# Altium footprint library PcbLib.PcbLib: 46 footprints (part 2 of 3)
Each footprint in its own frame and in the unit in brackets; x right, y up, seen from the top. Pads: shape width x height; smd on the part's side, far side on the other; paste and mask are expansions set on the pad; w line width, h text height; cw(c..) or ccw(c..) is an arc to the next point about the centre after c.
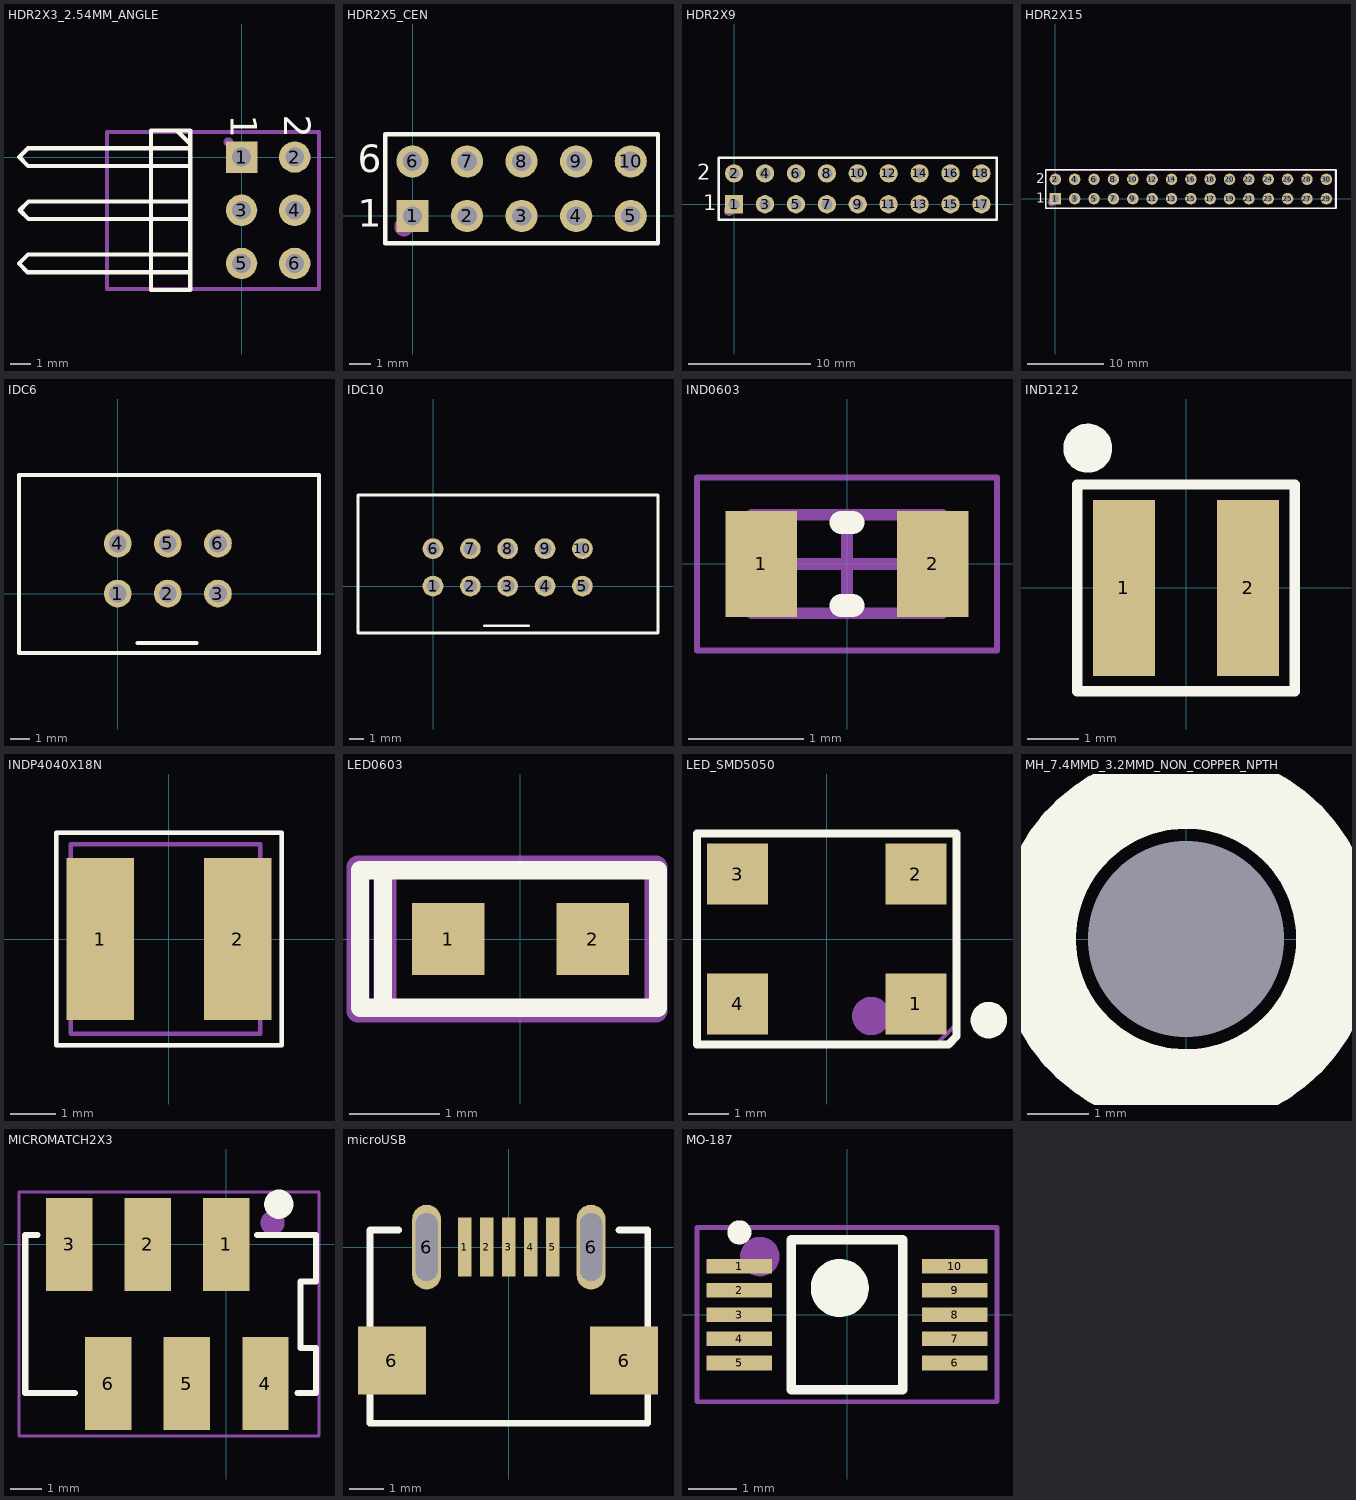
[diagram p1: the footprints below, top view; thin cyan lines are the x and y axes]

## HDR2X3_2.54MM_ANGLE [mm] "Creator MM. Boxed overlay added"
pads (6):
  rect 1.5x1.5 hole 0.9: 1(0,0)
  round 1.5 hole 0.9: 2(2.54,0) 3(0,-2.54) 4(2.54,-2.54) 5(0,-5.08) 6(2.54,-5.08)
Top Overlay:
  lines w0.2: -3.085,1.26 -2.45,0.625 ; -2.54,-5.503 -10.222,-5.503 -10.635,-5.09 -10.202,-4.657 -2.54,-4.657 ; -2.54,-2.963 -10.177,-2.963 -10.6,-2.54 -10.177,-2.117 -2.54,-2.117 ; -2.54,-0.423 -10.202,-0.423 -10.625,0 -10.202,0.423 -2.54,0.423 ; -4.325,-6.35 -2.45,-6.35 -2.45,1.27 -4.325,1.27 -4.325,-6.35
  text "2" at 2.032,2.032 h1.27
  text "1" at -0.508,2.032 h1.27
Mechanical 29:
  circle w0.254: c-0.63,0.72 r0.1
  lines w0.2: -6.425,-6.3 3.7,-6.3 3.7,1.2 -6.425,1.2 -6.425,-6.3
  text ".Designator" at 1.8,-5.5 h1.52
3D body "Header RightAngle 2_54mm Pitch 6pin.stp": height 6.16, standoff -2.89, extent -10.999,-6.36 2.85,1.26

## HDR2X5_CEN [mm] "Connector; Header; 5x2 Position"
pads (10):
  rect 1.5x1.5 hole 0.9: 1(0,0)
  round 1.5 hole 0.9: 2(2.54,0) 3(5.08,0) 4(7.62,0) 5(10.16,0) 6(0,2.54) 7(2.54,2.54) 8(5.08,2.54) 9(7.62,2.54) 10(10.16,2.54)
Top Overlay:
  lines w0.2: -1.27,-1.27 11.43,-1.27 11.43,3.81 -1.27,3.81 -1.27,-1.27
  text "1" at -2.54,-0.508 h1.27
  text "6" at -2.54,2.032 h1.27
Mechanical 29:
  circle w0.5: c-0.4,-0.5 r0.2
  lines w0.1: -1.3,-1.3 -1.3,3.8 11.4,3.8 11.4,-1.3 -1.3,-1.3
  text ".Designator" at 3.5,0.9 h1.1
3D body "1x2 TH Pitch 2_54mm.step": height 9.5, standoff -3.2, extent 8.89,-1.27 11.43,3.81
3D body "1x2 TH Pitch 2_54mm.step": height 9.5, standoff -3.2, extent 6.35,-1.27 8.89,3.81
3D body "1x2 TH Pitch 2_54mm.step": height 9.5, standoff -3.2, extent 3.81,-1.27 6.35,3.81
3D body "1x2 TH Pitch 2_54mm.step": height 9.5, standoff -3.2, extent 1.27,-1.27 3.81,3.81
3D body "1x2 TH Pitch 2_54mm.step": height 9.5, standoff -3.2, extent -1.27,-1.27 1.27,3.81

## HDR2X9 [mm] "Connector; Header; 9x2 Position"
pads (18):
  rect 1.5x1.5 hole 0.9: 1(0,0)
  round 1.5 hole 0.9: 2(0,2.54) 3(2.54,0) 4(2.54,2.54) 5(5.08,0) 6(5.08,2.54) 7(7.62,0) 8(7.62,2.54) 9(10.16,0) 10(10.16,2.54) 11(12.7,0) 12(12.7,2.54) 13(15.24,0) 14(15.24,2.54) 15(17.78,0) 16(17.78,2.54) 17(20.32,0) 18(20.32,2.54)
Top Overlay:
  lines w0.2: -1.27,-1.27 21.59,-1.27 21.59,3.81 -1.27,3.81 -1.27,-1.27
  text "1" at -2.54,-0.508 h1.27
  text "2" at -3.048,2.032 h1.27
Mechanical 29:
  circle w0.5: c-0.4,-0.5 r0.2
  lines w0.1: -1.3,-1.3 21.6,-1.3 21.6,3.8 -1.3,3.8 -1.3,-1.3
  text ".Designator" at 7.2,0.4 h2
3D body "961206-6404-XX.stp": height 8.01, standoff -3.29, extent 13.97,-1.23 21.59,3.77
3D body "961206-6404-XX.stp": height 8.01, standoff -3.29, extent 6.35,-1.23 13.97,3.77
3D body "961206-6404-XX.stp": height 8.01, standoff -3.29, extent -1.27,-1.23 6.35,3.77

## HDR2X15 [mm] "Connector; Header; 15x2 Position"
pads (30):
  rect 1.5x1.5 hole 0.9: 1(0,0)
  round 1.5 hole 0.9: 2(0,2.54) 3(2.54,0) 4(2.54,2.54) 5(5.08,0) 6(5.08,2.54) 7(7.62,0) 8(7.62,2.54) 9(10.16,0) 10(10.16,2.54) 11(12.7,0) 12(12.7,2.54) 13(15.24,0) 14(15.24,2.54) 15(17.78,0) 16(17.78,2.54) 17(20.32,0) 18(20.32,2.54) 19(22.86,0) 20(22.86,2.54) 21(25.4,0) 22(25.4,2.54) 23(27.94,0) 24(27.94,2.54) 25(30.48,0) 26(30.48,2.54) 27(33.02,0) 28(33.02,2.54) 29(35.56,0) 30(35.56,2.54)
Top Overlay:
  lines w0.2: -1.27,-1.27 36.83,-1.27 36.83,3.81 -1.27,3.81 -1.27,-1.27
  text "1" at -2.54,-0.508 h1.27
  text "2" at -2.54,2.032 h1.27
Mechanical 29:
  circle w0.5: c-0.5,-0.5 r0.25
  lines w0.1: -1.25,-1.25 36.75,-1.25 36.75,3.75 -1.25,3.75 -1.25,-1.25
  text ".Designator" at 8.5,0.5 h2
3D body "961206-6404-XX.stp": height 8.01, standoff -3.29, extent -1.27,-1.23 6.35,3.77
3D body "961206-6404-XX.stp": height 8.01, standoff -3.29, extent 6.35,-1.23 13.97,3.77
3D body "961206-6404-XX.stp": height 8.01, standoff -3.29, extent 13.97,-1.23 21.59,3.77
3D body "961206-6404-XX.stp": height 8.01, standoff -3.29, extent 21.59,-1.23 29.21,3.77
3D body "961206-6404-XX.stp": height 8.01, standoff -3.29, extent 29.21,-1.23 36.83,3.77

## IDC6 [mm]
pads (6):
  round 1.408 hole 0.9: 1(0,0) 2(2.54,0) 3(5.08,0) 4(0,2.54) 5(2.54,2.54) 6(5.08,2.54)
Top Overlay:
  lines w0.2: 1,-2.5 4,-2.5 ; -5,-3 -5,6 10.2,6 10.2,-3 -5,-3
3D body "User Library-IDC Socket Male 6pin Straight THT Goldplated 2_54mm.step": height 9.33, standoff -3.07, extent -5.07,-2.98 10.15,5.87

## IDC10 [mm]
pads (10):
  round 1.408 hole 0.9: 1(0,0) 2(2.54,0) 3(5.08,0) 4(7.62,0) 5(10.16,0) 6(0,2.54) 7(2.54,2.54) 8(5.08,2.54) 9(7.62,2.54) 10(10.16,2.54)
Top Overlay:
  lines w0.2: 3.5,-2.7 6.5,-2.7 ; -5.1,-3.2 -5.1,6.2 15.3,6.2 15.3,-3.2 -5.1,-3.2
3D body "User Library-IDC-10MS.STEP": height 9.25, standoff -3.45, extent -5.1,-3.15 15.3,6.2

## IND0603 [mm]
height 0.5
pads (2):
  rect 0.62x0.92 smd: 1(-0.745,0) 2(0.745,0)
Top Overlay:
  lines w0.2: -0.05,-0.36 0.05,-0.36 ; -0.05,0.36 0.05,0.36
Mechanical 13:
  lines w0.1: -0.825,-0.425 0.825,-0.425 0.825,0.425 -0.825,0.425 -0.825,-0.425
Mechanical 15:
  lines w0.05: -1.3,-0.75 1.3,-0.75 1.3,0.75 -1.3,0.75 -1.3,-0.75
  lines w0.1: -0.425,0 0.425,0 ; 0,-0.425 0,0.425
3D body "IND0603.step": height 0.5, standoff 0, extent -0.825,-0.425 0.825,0.425

## IND1212 [mm]
pads (2):
  rect 1.2x3.4 smd: 1(-1.2,0) 2(1.2,0)
Top Overlay:
  circle w0.5: c-1.9,2.7 r0.224
  lines w0.2: -2.1,-2 -2.1,2 2.1,2 2.1,-2 -2.1,-2
Mechanical 29:
  circle w0.5: c-1.3,1.1 r0.2
  lines w0.1: -2.1,-2 -2.1,2 2.1,2 2.1,-2 -2.1,-2
  text ".Designator" at -1.5,-1.1 h1.2
3D body "L_SMD_1212_Murata_LQH3NP_M0(1212).step": height 1.4, standoff -0.01, extent -1.51,-1.5 1.51,1.5

## INDP4040X18N [mm] "Precision Wire Wound Inductor, 2-Leads, Body 4.00x4.00mm, IPC Medium Density"
height 1.8
pads (2):
  rect 1.5x3.6 smd: 1(-1.525,0) 2(1.525,0)
Top Overlay:
  lines w0.1: -2.5,-2.35 2.5,-2.35 2.5,2.35 -2.5,2.35 -2.5,-2.35
Mechanical 1:
  lines w0.1: -2.175,-2.1 2.025,-2.1 2.025,2.1 -2.175,2.1 -2.175,-2.1
Mechanical 29:
  lines w0.1: -2.5,-2.35 2.5,-2.35 2.5,2.35 -2.5,2.35 -2.5,-2.35
  text ".Designator" at -1.775,-0.95 h2
3D body "INDP4040X18N.step": height 1.9, standoff 0, extent -2.175,-2 2.025,2

## JUMPER [mm]
3D body "JUMPER.step": height 1.27, standoff -1.27, extent -2.95,-2.54 2.95,2.54

## LED0603 [mm]
pads (2):
  rect 0.8x0.8 smd: 1(-0.8,0) 2(0.8,0)
Top Overlay:
  lines w0.2: -1.524,-0.762 -1.524,0.762 ; -1.778,-0.762 -1.778,0.762 1.524,0.762 1.524,-0.762 -1.778,-0.762
Mechanical 29:
  lines w0.254: -1.5,-0.8 -1.5,0.8 ; -1.8,-0.8 1.5,-0.8 1.5,0.8 -1.8,0.8 -1.8,-0.8
  text ".Designator" at -1.1,-0.3 h0.6
3D body: height 0.66, standoff 0.5, extent -0.2,-0.2 0.2,0.2
3D body "LED SMD 0603.step": height 0.65, standoff 0, extent -0.85,-0.4 0.85,0.4

## LED_SMD5050 [mm]
pads (4):
  rect 1.5x1.5 smd: 1(2.2,-1.6) 2(2.2,1.6) 3(-2.2,1.6) 4(-2.2,-1.6)
Top Overlay:
  circle w0.5: c4,-2 r0.2
  lines w0.2: -3.2,-2.6 -3.2,2.6 3.2,2.6 3.2,-2.4 3,-2.6 -3.2,-2.6
Mechanical 29:
  circle w0.5: c1.1,-1.9 r0.224
  lines w0.1: -3.2,-2.6 -3.2,2.6 3.2,2.6 3.2,-2.1 2.7,-2.6 -3.2,-2.6
  text ".Designator" at -1.6,-0.6 h1.1
3D body "WS2812B.step": height 1.71, standoff 0.01, extent -2.7,-2.5 2.7,2.5

## MH_7.4MMD_3.2MMD_NON_COPPER_NPTH [mm] "Creator MM"
pads (1):
  round 0 hole 3.2 unplated mask+0.025: 1(0,0)
Top Overlay:
  circle w1.3: c0,0 r2.45
Bottom Overlay:
  circle w1.3: c0,0 r2.45

## MICROMATCH2X3 [mm]
pads (6):
  rect 1.5x3 smd: 1(0,0) 2(-2.54,0) 3(-5.08,0) 4(1.27,-4.5) 5(-1.27,-4.5) 6(-3.81,-4.5)
Top Overlay:
  circle w0.5: c1.7,1.3 r0.224
  lines w0.2: -6.1,0.3 -6.5,0.3 -6.5,-4.8 -4.9,-4.8 ; 1,0.3 2.9,0.3 2.9,-1.2 2.4,-1.2 2.4,-3.35 2.9,-3.35 2.9,-4.8 2.3,-4.8
Mechanical 29:
  circle w0.5: c1.5,0.7 r0.141
  lines w0.1: -6.7,-6.2 -6.7,1.7 3,1.7 3,-6.2 -6.7,-6.2
  text ".Designator" at -3.5,-2.6 h1.1
3D body "Micro-MaTch_6pin_SMD.stp": height 5.26, standoff -0.27, extent -6.675,-5.947 2.875,1.169

## microUSB [mm]
pads (9):
  rect 0.4x1.75 smd: 1(-1.3,0) 2(-0.65,0) 3(0,0) 4(0.65,0) 5(1.3,0)
  rect 2x2 smd: 6(-3.45,-3.35) 6(3.4,-3.35)
  oval 0.85x2.5 hole 0.65 slot 2 at 90 deg: 6(-2.425,0) 6(2.425,0)
Top Overlay:
  lines w0.2: -3.25,0.5 -4.1,0.5 -4.1,-5.2 4.1,-5.2 4.1,0.5 3.25,0.5
3D body "User Library-MicroUSB-B_Molex_105017-0001.step": height 2.63, standoff -0.67, extent -4.1,-5.205 4.1,0.225

## MO-187 [mm] "MSOP, 10-Leads, Body 3.00x3.00mm, Pitch 0.50mm, IPC Medium Density"
height 1.1
pads (10):
  rect 1.35x0.3 smd: 1(-2.225,1) 2(-2.225,0.5) 3(-2.225,0) 4(-2.225,-0.5) 5(-2.225,-1) 6(2.225,-1) 7(2.225,-0.5) 8(2.225,0) 9(2.225,0.5) 10(2.225,1)
Top Overlay:
  circle w0.6: c-0.15,0.55 r0.3
  circle w0.25: c-2.225,1.7 r0.125
  lines w0.2: -1.15,-1.55 1.15,-1.55 1.15,1.55 -1.15,1.55 -1.15,-1.55
Mechanical 29:
  circle w0.5: c-1.8,1.2 r0.158
  lines w0.1: -3.1,-1.8 3.1,-1.8 3.1,1.8 -3.1,1.8 -3.1,-1.8
  text ".Designator" at -1.6,-0.9 h2
3D body: height 1.1, standoff 0, extent -1.55,-1.55 1.55,1.55